# EAGLE library part ESDAXXSC6 (library st)
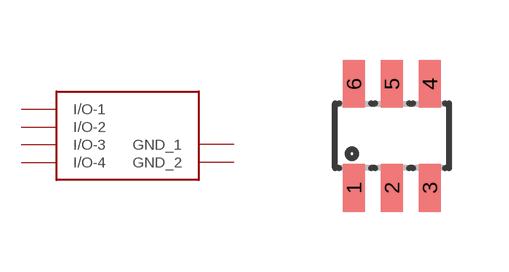
[diagram p8: symbol with the pads of SOT23-6L; footprint SOT23-6L]

Designator prefix -

## ESDAXXSC6  [SOT23-6L]
1  I/O-1
2  GND_1  pwr
3  I/O-2
4  I/O-3
5  GND_2  pwr
6  I/O-4

## Footprint SOT23-6L (pad centres in mm)
Small Outline Transistor
smd 0.55 x 1.2: 1 -0.95,-1.3; 2 0,-1.3; 3 0.95,-1.3; 4 0.95,1.3; 5 0,1.3; 6 -0.95,1.3